# EAGLE library part 4030 (library 40xxDIN)
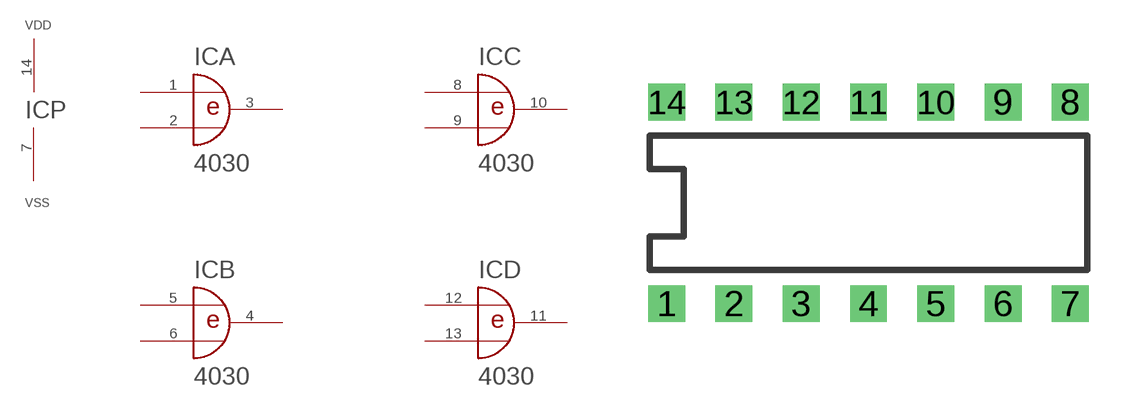
[diagram p61: symbol with the pads of DIL14; footprint DIL14]

Designator prefix IC; gates A=4030 B=4030 C=4030 D=4030 P=PWRN

## 4030  [DIL14]
1  A:I0  in
2  A:I1  in
3  A:O  out
4  B:O  out
5  B:I0  in
6  B:I1  in
7  P:VSS  pwr
8  C:I0  in
9  C:I1  in
10  C:O  out
11  D:O  out
12  D:I0  in
13  D:I1  in
14  P:VDD  pwr

## Footprint DIL14 (pad centres in mm)
drill 0.8 pad 1.397 square: 1 0,0; 2 2.54,0; 3 5.08,0; 4 7.62,0; 5 10.16,0; 6 12.7,0; 7 15.24,0; 8 15.24,7.62; 9 12.7,7.62; 10 10.16,7.62; 11 7.62,7.62; 12 5.08,7.62; 13 2.54,7.62; 14 0,7.62